# Altium footprint library nRF52840-QFAA-F.PcbLib: 1 footprints
Each footprint in its own frame and in the unit in brackets; x right, y up, seen from the top. Pads: shape width x height; smd on the part's side, far side on the other; paste and mask are expansions set on the pad; w line width, h text height; cw(c..) or ccw(c..) is an arc to the next point about the centre after c.
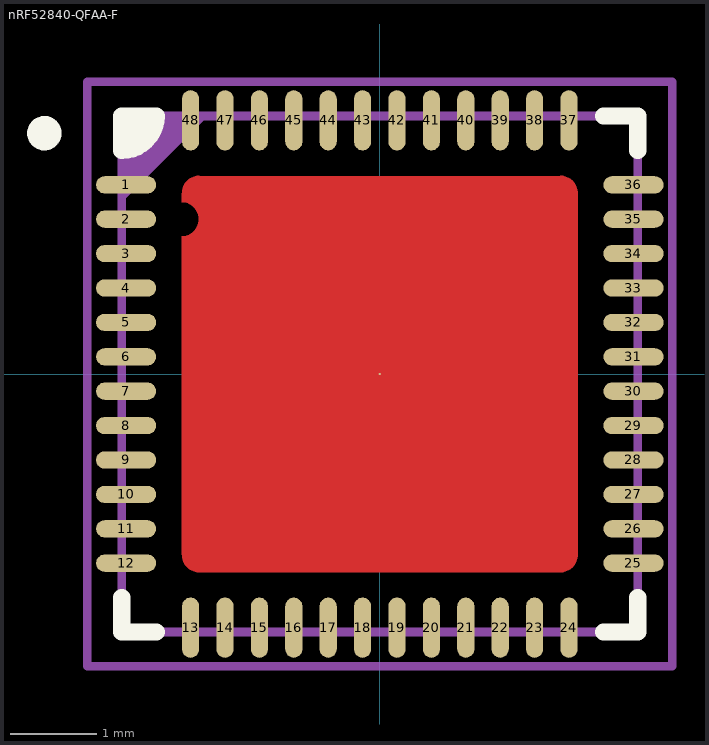
[diagram p0: the footprint, top view; thin cyan lines are the x and y axes]

## nRF52840-QFAA-F [mm] "Description goes here"
pads (49):
  round 0.025 smd paste-10: 0(0,0)
  oval 0.7x0.2 smd: 1(-2.95,2.2) 2(-2.95,1.8) 3(-2.95,1.4) 4(-2.95,1) 5(-2.95,0.6) 6(-2.95,0.2) 7(-2.95,-0.2) 8(-2.95,-0.6) 9(-2.95,-1) 10(-2.95,-1.4) 11(-2.95,-1.8) 12(-2.95,-2.2) 25(2.95,-2.2) 26(2.95,-1.8) 27(2.95,-1.4) 28(2.95,-1) 29(2.95,-0.6) 30(2.95,-0.2) 31(2.95,0.2) 32(2.95,0.6) 33(2.95,1) 34(2.95,1.4) 35(2.95,1.8) 36(2.95,2.2)
  oval 0.2x0.7 smd: 13(-2.2,-2.95) 14(-1.8,-2.95) 15(-1.4,-2.95) 16(-1,-2.95) 17(-0.6,-2.95) 18(-0.2,-2.95) 19(0.2,-2.95) 20(0.6,-2.95) 21(1,-2.95) 22(1.4,-2.95) 23(1.8,-2.95) 24(2.2,-2.95) 37(2.2,2.95) 38(1.8,2.95) 39(1.4,2.95) 40(1,2.95) 41(0.6,2.95) 42(0.2,2.95) 43(-0.2,2.95) 44(-0.6,2.95) 45(-1,2.95) 46(-1.4,2.95) 47(-1.8,2.95) 48(-2.2,2.95)
Top Layer:
  region: -2.3,-2.1 -2.3,1.6 -2.274,1.602 -2.223,1.615 -2.178,1.641 -2.141,1.678 -2.115,1.723 -2.102,1.774 -2.102,1.826 -2.115,1.877 -2.141,1.922 -2.178,1.959 -2.223,1.985 -2.274,1.998 -2.3,2 -2.3,2.1 -2.3,2.12 -2.292,2.158 -2.277,2.195 -2.255,2.227 -2.227,2.255 -2.195,2.277 -2.158,2.292 -2.12,2.3 -2.1,2.3 2.1,2.3 2.12,2.3 2.158,2.292 2.195,2.277 2.227,2.255 2.255,2.227 2.277,2.195 2.292,2.158 2.3,2.12 2.3,2.1 2.3,-2.1 2.3,-2.12 2.292,-2.158 2.277,-2.195 2.255,-2.227 2.227,-2.255 2.195,-2.277 2.158,-2.292 2.12,-2.3 2.1,-2.3 -2.1,-2.3 -2.12,-2.3 -2.158,-2.292 -2.195,-2.277 -2.227,-2.255 -2.255,-2.227 -2.277,-2.195 -2.292,-2.158 -2.3,-2.12
  lines w0.001: -2.3,-2.1 ccw(c-2.1,-2.1) -2.1,-2.3 2.1,-2.3 ccw(c2.1,-2.1) 2.3,-2.1 2.3,2.1 ccw(c2.1,2.1) 2.1,2.3 -2.1,2.3 ccw(c-2.1,2.1) -2.3,2.1 -2.3,2 cw(c-2.3,1.8) -2.3,1.6 -2.3,-2.1
Top Overlay:
  circle w0.2: c-3.9,2.8 r0.1
  region: -3,2.6 -2.92,2.6 -2.773,2.661 -2.661,2.773 -2.6,2.92 -2.6,3 -3,3
  lines w0.2: -3,-2.6 -3,-3 -2.6,-3 ; 2.6,-3 3,-3 3,-2.6 ; 2.6,3 3,3 3,2.6 ; -3,2.6 ccw(c-3,3) -2.6,3 -3,3 -3,2.6
Top Paste:
  rectangle: -0.6,-0.6 0.6,0.6
  rectangle: -2,-0.6 -0.8,0.6
  rectangle: -2,-2 -0.8,-0.8
  rectangle: -0.6,-2 0.6,-0.8
  rectangle: 0.8,-2 2,-0.8
  rectangle: 0.8,-0.6 2,0.6
  rectangle: -2,0.8 -0.8,2
  rectangle: -0.6,0.8 0.6,2
  rectangle: 0.8,0.8 2,2
Top Assembly:
  region: -3,3 -2,3 -3,2
  lines w0.1: -3,-3 3,-3 3,3 -3,3 -3,-3
Top Component Center:
  lines w0.1: -0.5,0 0.5,0 ; 0,-0.5 0,0.5
Top Component Outline:
  lines w0.1: -3,-3 3,-3 3,3 -3,3 -3,-3
Top Courtyard:
  lines w0.1: -3.4,-3.4 3.4,-3.4 3.4,3.4 -3.4,3.4 -3.4,-3.4
Top Designator:
  text "''.Designator''" at 0,0 h2.5
Top Value:
  text "''.Comment''" at 0,0 h2.5
3D body "nRF52840-QFAA-F.STEP": height 0.89, standoff 0, extent -3.01,-3.01 3.01,3.01